# Altium footprint library EG3013.PcbLib: 1 footprints
Each footprint in its own frame and in the unit in brackets; x right, y up, seen from the top. Pads: shape width x height; smd on the part's side, far side on the other; paste and mask are expansions set on the pad; w line width, h text height; cw(c..) or ccw(c..) is an arc to the next point about the centre after c.
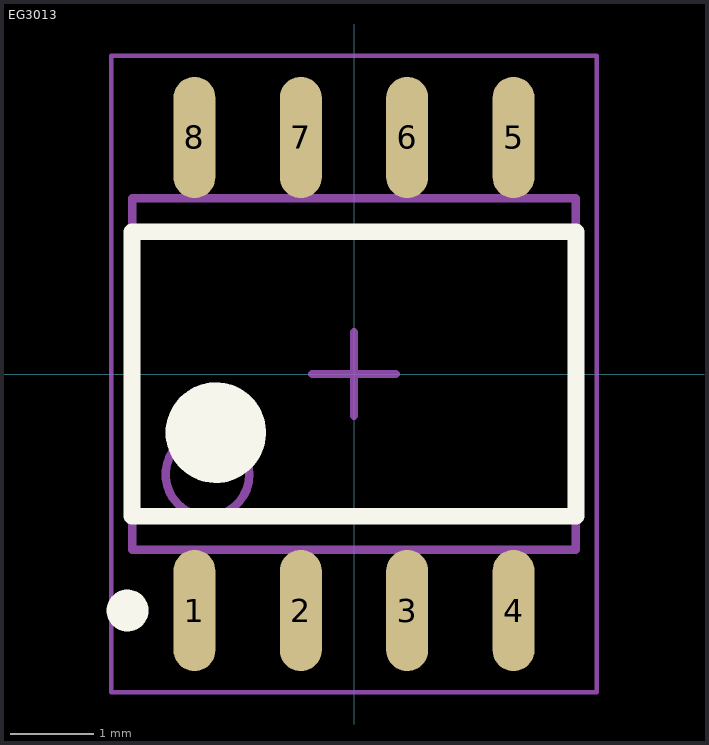
[diagram p0: the footprint, top view; thin cyan lines are the x and y axes]

## EG3013 [mm] "SOIC, 8-Leads, Body 5.00x3.90mm, Pitch 1.27mm, IPC Medium Density"
height 1.75
pads (8):
  oval 0.5x1.45 smd: 1(-1.905,-2.825) 2(-0.635,-2.825) 3(0.635,-2.825) 4(1.905,-2.825) 5(1.905,2.825) 6(0.635,2.825) 7(-0.635,2.825) 8(-1.905,2.825)
Top Overlay:
  circle w0.25: c-2.705,-2.825 r0.125
  circle w0.6: c-1.65,-0.7 r0.3
  lines w0.2: -2.65,-1.7 2.65,-1.7 2.65,1.7 -2.65,1.7 -2.65,-1.7
Mechanical 13:
  circle w0.1: c-1.75,-1.2 r0.5
  lines w0.1: -2.65,-2.1 2.65,-2.1 2.65,2.1 -2.65,2.1 -2.65,-2.1
Mechanical 15:
  lines w0.05: -2.9,-3.8 2.9,-3.8 2.9,3.8 -2.9,3.8 -2.9,-3.8
  lines w0.1: -0.5,0 0.5,0 ; 0,-0.5 0,0.5
3D body "SOIC127P600X175-8N.step": height 1.75, standoff 0, extent -2.65,-3 2.65,3